# Altium footprint library myICs.PcbLib: 56 footprints (part 4 of 4)
Each footprint in its own frame and in the unit in brackets; x right, y up, seen from the top. Pads: shape width x height; smd on the part's side, far side on the other; paste and mask are expansions set on the pad; w line width, h text height; cw(c..) or ccw(c..) is an arc to the next point about the centre after c.
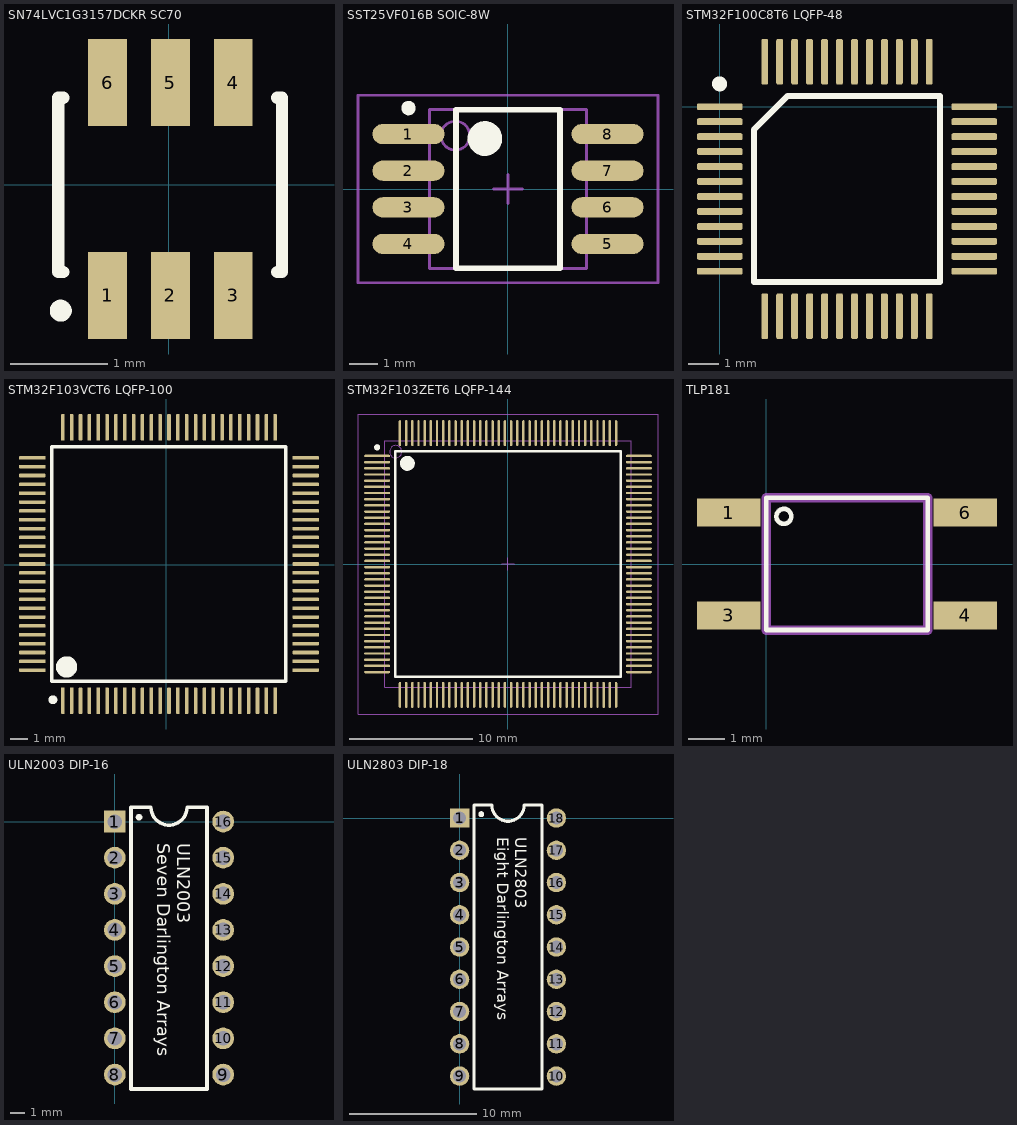
[diagram p3: the footprints below, top view; thin cyan lines are the x and y axes]

## SN74LVC1G3157DCKR SC70 [mm]
height 1.1
pads (6):
  rect 0.4x0.9 smd: 1(-0.635,-1.143) 2(0.015,-1.143) 3(0.665,-1.143) 4(0.665,1.057) 5(0.015,1.057) 6(-0.635,1.057)
Top Overlay:
  circle w0.127: c-1.118,-1.3 r0.05
  lines w0.127: -1.093,-0.9 -1.143,-0.9 -1.143,0.9 -1.093,0.9 ; 1.118,-0.9 1.168,-0.9 1.168,0.9 1.118,0.9
3D body: height 1.1, standoff 0, extent -1.143,-0.889 1.143,0.889

## SST25VF016B SOIC-8W [mm] "SOIC, 8-Leads, Body 5.4x5.4mm, Pitch 1.27mm"
height 1.75
pads (8):
  oval 2.5x0.7 smd: 1(-3.45,1.905) 2(-3.45,0.635) 3(-3.45,-0.635) 4(-3.45,-1.905) 5(3.45,-1.905) 6(3.45,-0.635) 7(3.45,0.635) 8(3.45,1.905)
Top Overlay:
  circle w0.25: c-3.45,2.805 r0.125
  circle w0.6: c-0.8,1.75 r0.3
  lines w0.2: -1.8,-2.75 -1.8,2.75 1.8,2.75 1.8,-2.75 -1.8,-2.75
Mechanical 13:
  circle w0.1: c-1.825,1.85 r0.5
  lines w0.1: -2.725,-2.75 -2.725,2.75 2.725,2.75 2.725,-2.75 -2.725,-2.75
Mechanical 15:
  lines w0.1: -0.5,0 0.5,0 ; 0,-0.5 0,0.5 ; -5.2,-3.25 -5.2,3.25 5.2,3.25 5.2,-3.25 -5.2,-3.25
3D body: height 2.13, standoff 0, extent -2.725,-2.75 2.725,2.75

## STM32F100C8T6 LQFP-48 [mil]
height 62.99
pads (48):
  rrect50% 60x9 smd: 1(0,0) 2(0,-19.68) 3(0,-39.37) 4(0,-59.05) 5(0,-78.74) 6(0,-98.42) 7(0,-118.11) 8(0,-137.79) 9(0,-157.48) 10(0,-177.16) 11(0,-196.85) 12(0,-216.53) 25(334.65,-216.53) 26(334.65,-196.85) 27(334.65,-177.16) 28(334.65,-157.48) 29(334.65,-137.79) 30(334.65,-118.11) 31(334.65,-98.42) 32(334.65,-78.74) 33(334.65,-59.05) 34(334.65,-39.37) 35(334.65,-19.68) 36(334.65,0)
  rrect50% 9x60 smd: 13(59.06,-275.59) 14(78.74,-275.59) 15(98.43,-275.59) 16(118.11,-275.59) 17(137.8,-275.59) 18(157.48,-275.59) 19(177.17,-275.59) 20(196.85,-275.59) 21(216.54,-275.59) 22(236.22,-275.59) 23(255.91,-275.59) 24(275.59,-275.59) 37(275.59,59.06) 38(255.91,59.06) 39(236.22,59.06) 40(216.54,59.06) 41(196.85,59.06) 42(177.17,59.06) 43(157.48,59.06) 44(137.8,59.06) 45(118.11,59.06) 46(98.43,59.06) 47(78.74,59.06) 48(59.06,59.06)
Top Overlay:
  circle w9.84: c-0.32,30.05 r4.92
  lines w7.87: 44.69,-230.91 289.96,-230.91 289.96,14.37 89.37,14.37 44.69,-30.31 44.69,-230.91
3D body: height 62.99, standoff 0, extent 40,-230 290,20

## STM32F103VCT6 LQFP-100 [mm] "LQFP100"
height 1.6
pads (100):
  rrect50% 0.2x1.5 smd: 1(-5.848,-7.674) 2(-5.348,-7.674) 3(-4.848,-7.674) 4(-4.348,-7.674) 5(-3.848,-7.674) 6(-3.348,-7.674) 7(-2.848,-7.674) 8(-2.348,-7.674) 9(-1.848,-7.674) 10(-1.348,-7.674) 11(-0.848,-7.674) 12(-0.348,-7.674) 13(0.152,-7.674) 14(0.652,-7.674) 15(1.152,-7.674) 16(1.652,-7.674) 17(2.152,-7.674) 18(2.652,-7.674) 19(3.152,-7.674) 20(3.652,-7.674) 21(4.152,-7.674) 22(4.652,-7.674) 23(5.152,-7.674) 24(5.652,-7.674) 25(6.152,-7.674) 51(6.152,7.776) 52(5.652,7.776) 53(5.152,7.776) 54(4.652,7.776) 55(4.152,7.776) 56(3.652,7.776) 57(3.152,7.776) 58(2.652,7.776) 59(2.152,7.776) 60(1.652,7.776) 61(1.152,7.776) 62(0.652,7.776) 63(0.152,7.776) 64(-0.348,7.776) 65(-0.848,7.776) 66(-1.348,7.776) 67(-1.848,7.776) 68(-2.348,7.776) 69(-2.848,7.776) 70(-3.348,7.776) 71(-3.848,7.776) 72(-4.348,7.776) 73(-4.848,7.776) 74(-5.348,7.776) 75(-5.848,7.776)
  rrect50% 1.5x0.2 smd: 26(7.877,-5.949) 27(7.877,-5.449) 28(7.877,-4.949) 29(7.877,-4.449) 30(7.877,-3.949) 31(7.877,-3.449) 32(7.877,-2.949) 33(7.877,-2.449) 34(7.877,-1.949) 35(7.877,-1.449) 36(7.877,-0.949) 37(7.877,-0.449) 38(7.877,0.051) 39(7.877,0.551) 40(7.877,1.051) 41(7.877,1.551) 42(7.877,2.051) 43(7.877,2.551) 44(7.877,3.051) 45(7.877,3.551) 46(7.877,4.051) 47(7.877,4.551) 48(7.877,5.051) 49(7.877,5.551) 50(7.877,6.051) 76(-7.573,6.051) 77(-7.573,5.551) 78(-7.573,5.051) 79(-7.573,4.551) 80(-7.573,4.051) 81(-7.573,3.551) 82(-7.573,3.051) 83(-7.573,2.551) 84(-7.573,2.051) 85(-7.573,1.551) 86(-7.573,1.051) 87(-7.573,0.551) 88(-7.573,0.051) 89(-7.573,-0.449) 90(-7.573,-0.949) 91(-7.573,-1.449) 92(-7.573,-1.949) 93(-7.573,-2.449) 94(-7.573,-2.949) 95(-7.573,-3.449) 96(-7.573,-3.949) 97(-7.573,-4.449) 98(-7.573,-4.949) 99(-7.573,-5.449) 100(-7.573,-5.949)
Top Overlay:
  circle w0.25: c-6.409,-7.619 r0.125
  circle w0.6: c-5.634,-5.766 r0.3
  lines w0.2: -6.477,-6.579 -6.477,6.68 6.756,6.68 6.756,-6.579 -6.477,-6.579
3D body: height 1.6, standoff 0, extent -7.595,-7.62 7.874,7.798

## STM32F103ZET6 LQFP-144 [mm] "LQFP144, 20x20"
height 1.6
pads (144):
  oval 2.1x0.2 smd: 1(-10.6,8.75) 2(-10.6,8.25) 3(-10.6,7.75) 4(-10.6,7.25) 5(-10.6,6.75) 6(-10.6,6.25) 7(-10.6,5.75) 8(-10.6,5.25) 9(-10.6,4.75) 10(-10.6,4.25) 11(-10.6,3.75) 12(-10.6,3.25) 13(-10.6,2.75) 14(-10.6,2.25) 15(-10.6,1.75) 16(-10.6,1.25) 17(-10.6,0.75) 18(-10.6,0.25) 19(-10.6,-0.25) 20(-10.6,-0.75) 21(-10.6,-1.25) 22(-10.6,-1.75) 23(-10.6,-2.25) 24(-10.6,-2.75) 25(-10.6,-3.25) 26(-10.6,-3.75) 27(-10.6,-4.25) 28(-10.6,-4.75) 29(-10.6,-5.25) 30(-10.6,-5.75) 31(-10.6,-6.25) 32(-10.6,-6.75) 33(-10.6,-7.25) 34(-10.6,-7.75) 35(-10.6,-8.25) 36(-10.6,-8.75) 73(10.6,-8.75) 74(10.6,-8.25) 75(10.6,-7.75) 76(10.6,-7.25) 77(10.6,-6.75) 78(10.6,-6.25) 79(10.6,-5.75) 80(10.6,-5.25) 81(10.6,-4.75) 82(10.6,-4.25) 83(10.6,-3.75) 84(10.6,-3.25) 85(10.6,-2.75) 86(10.6,-2.25) 87(10.6,-1.75) 88(10.6,-1.25) 89(10.6,-0.75) 90(10.6,-0.25) 91(10.6,0.25) 92(10.6,0.75) 93(10.6,1.25) 94(10.6,1.75) 95(10.6,2.25) 96(10.6,2.75) 97(10.6,3.25) 98(10.6,3.75) 99(10.6,4.25) 100(10.6,4.75) 101(10.6,5.25) 102(10.6,5.75) 103(10.6,6.25) 104(10.6,6.75) 105(10.6,7.25) 106(10.6,7.75) 107(10.6,8.25) 108(10.6,8.75)
  oval 0.2x2.1 smd: 37(-8.75,-10.6) 38(-8.25,-10.6) 39(-7.75,-10.6) 40(-7.25,-10.6) 41(-6.75,-10.6) 42(-6.25,-10.6) 43(-5.75,-10.6) 44(-5.25,-10.6) 45(-4.75,-10.6) 46(-4.25,-10.6) 47(-3.75,-10.6) 48(-3.25,-10.6) 49(-2.75,-10.6) 50(-2.25,-10.6) 51(-1.75,-10.6) 52(-1.25,-10.6) 53(-0.75,-10.6) 54(-0.25,-10.6) 55(0.25,-10.6) 56(0.75,-10.6) 57(1.25,-10.6) 58(1.75,-10.6) 59(2.25,-10.6) 60(2.75,-10.6) 61(3.25,-10.6) 62(3.75,-10.6) 63(4.25,-10.6) 64(4.75,-10.6) 65(5.25,-10.6) 66(5.75,-10.6) 67(6.25,-10.6) 68(6.75,-10.6) 69(7.25,-10.6) 70(7.75,-10.6) 71(8.25,-10.6) 72(8.75,-10.6) 109(8.75,10.6) 110(8.25,10.6) 111(7.75,10.6) 112(7.25,10.6) 113(6.75,10.6) 114(6.25,10.6) 115(5.75,10.6) 116(5.25,10.6) 117(4.75,10.6) 118(4.25,10.6) 119(3.75,10.6) 120(3.25,10.6) 121(2.75,10.6) 122(2.25,10.6) 123(1.75,10.6) 124(1.25,10.6) 125(0.75,10.6) 126(0.25,10.6) 127(-0.25,10.6) 128(-0.75,10.6) 129(-1.25,10.6) 130(-1.75,10.6) 131(-2.25,10.6) 132(-2.75,10.6) 133(-3.25,10.6) 134(-3.75,10.6) 135(-4.25,10.6) 136(-4.75,10.6) 137(-5.25,10.6) 138(-5.75,10.6) 139(-6.25,10.6) 140(-6.75,10.6) 141(-7.25,10.6) 142(-7.75,10.6) 143(-8.25,10.6) 144(-8.75,10.6)
Top Overlay:
  circle w0.6: c-8.15,8.15 r0.3
  circle w0.25: c-10.6,9.45 r0.125
  lines w0.2: -9.15,-9.15 9.15,-9.15 9.15,9.15 -9.15,9.15 -9.15,-9.15
Mechanical 13:
  circle w0.1: c-9.1,9.1 r0.5
  lines w0.1: -10,-10 10,-10 10,10 -10,10 -10,-10
Mechanical 15:
  lines w0.1: -0.5,0 0.5,0 ; 0,-0.5 0,0.5 ; -12.15,-12.15 12.15,-12.15 12.15,12.15 -12.15,12.15 -12.15,-12.15
3D body: height 1.6, standoff 0, extent -10,-10 10,10

## TLP181 [mil] "Optocoupler"
height 69
pads (4):
  rect 68x30 smd: 1(-40,55) 3(-40,-55) 4(213.23,-55) 6(213.23,55)
Top Overlay:
  circle w5: c19,51 r8
  lines w5: 0,-70.73 0,71 173.23,71 173.23,-70.73 0,-70.73
Mechanical 13:
  lines w10: 0,-70.86 0,70.86 173.23,70.86 173.23,-70.86 0,-70.86
3D body: height 98, standoff 0, extent 0,-70 173,71

## ULN2003 DIP-16 [mil]
pads (16):
  rect 60x60 hole 40: 1(0,0)
  round 60 hole 40: 2(0,-100) 3(0,-200) 4(0,-300) 5(0,-400) 6(0,-500) 7(0,-600) 8(0,-700) 9(300,-700) 10(300,-600) 11(300,-500) 12(300,-400) 13(300,-300) 14(300,-200) 15(300,-100) 16(300,0)
Top Overlay:
  circle w10: c67,12 r4.12
  lines w10: 45,-740 255,-740 255,40 200,40 cw(c150,40) 100,40 45,40 45,-740
  text "Seven Darlington Arrays" at 105,-60 h60
  text "ULN2003" at 160,-60 h60
3D body: height 10, standoff 0, extent 45,-740 255,40

## ULN2803 DIP-18 [mil]
pads (18):
  rect 60x60 hole 40: 1(0,0)
  round 60 hole 40: 2(0,-100) 3(0,-200) 4(0,-300) 5(0,-400) 6(0,-500) 7(0,-600) 8(0,-700) 9(0,-800) 10(300,-800) 11(300,-700) 12(300,-600) 13(300,-500) 14(300,-400) 15(300,-300) 16(300,-200) 17(300,-100) 18(300,0)
Top Overlay:
  circle w10: c67,12 r4.12
  lines w10: 45,-840 45,40 100,40 ccw(c150,40) 200,40 255,40 255,-840 45,-840
  text "Eight Darlington Arrays" at 105,-60 h60
  text "ULN2803" at 160,-60 h60
3D body: height 10, standoff 0, extent 45,-840 255,40